# EAGLE library part HX10-P_SP2 (library HX10-P_SP2)
10 ARMS nominal. Single power supply: +12...15 V, Voltage output: +/-0.625+2.5V @ +/- Ipn. Source: Datasheet <https://datasheet.datasheetarchive.com/originals/distributors/Datasheets-16/DSA-314810.pdf>
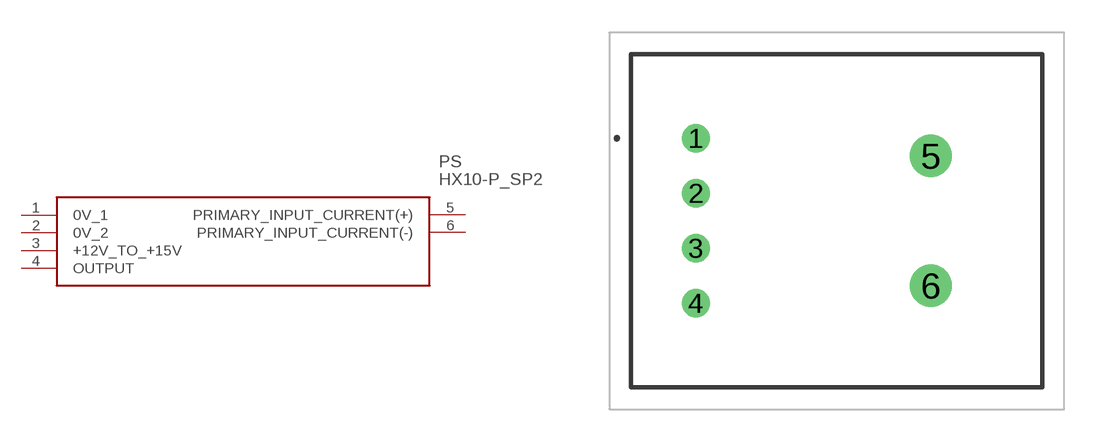
[diagram p0: symbol with the pads of HX10PSP2; footprint HX10PSP2]

Designator prefix PS

## HX10-P_SP2 (Description: 10 ARMS nominal. Single power supply: +12...15 V, Voltage output: +/-0.625+2.5V @ +/- Ipn.; Height: 20mm; Manufacturer_Name: LEM; Manufacturer_Part_Number: HX10-P/SP2)  [HX10PSP2]
1  0V_1
2  0V_2
3  +12V_TO_+15V
4  OUTPUT
5  PRIMARY_INPUT_CURRENT(+)
6  PRIMARY_INPUT_CURRENT(-)

## Footprint HX10PSP2 (pad centres in mm)
HX10-P/SP2-2
drill 0.76 pad 1.303: 1 0,0; 2 0,-2.54; 3 0,-5.08; 4 0,-7.62
drill 1.3 pad 1.95: 5 10.85,-0.81; 6 10.85,-6.81